# Altium footprint library ResistorsTHD.PcbLib: 21 footprints (part 2 of 2)
Each footprint in its own frame and in the unit in brackets; x right, y up, seen from the top. Pads: shape width x height; smd on the part's side, far side on the other; paste and mask are expansions set on the pad; w line width, h text height; cw(c..) or ccw(c..) is an arc to the next point about the centre after c.
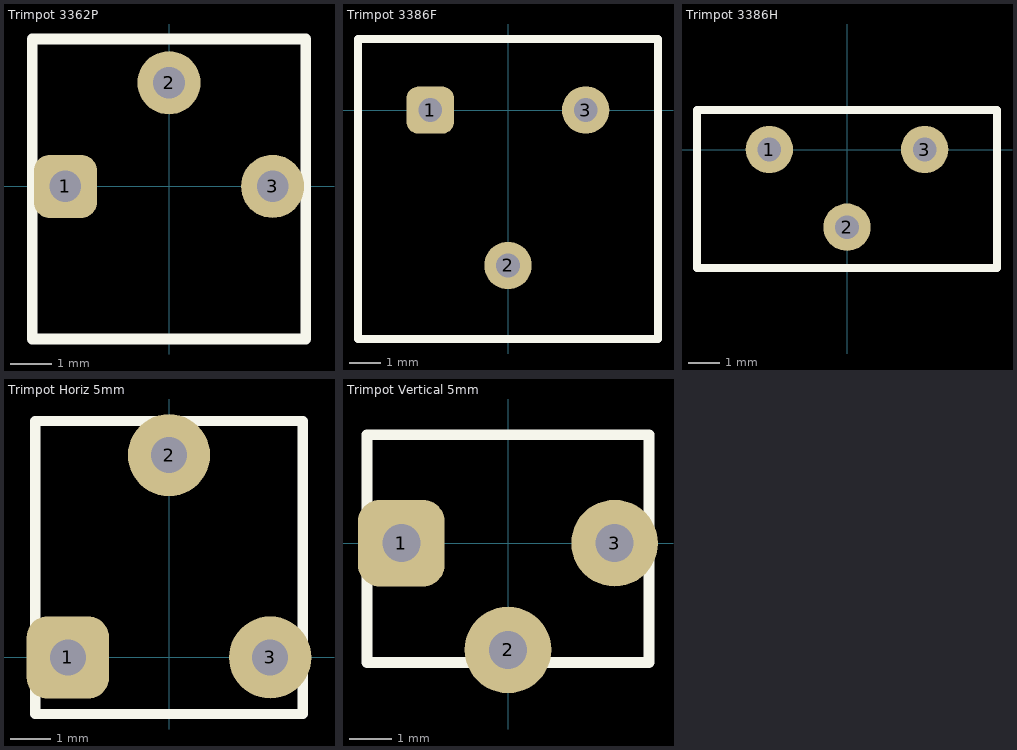
[diagram p1: the footprints below, top view; thin cyan lines are the x and y axes]

## Trimpot 3362P [mil]
pads (3):
  rrect50% 60x60 hole 30: 1(-98.43,0)
  round 60 hole 30: 2(0,98.43) 3(98.43,0)
Top Overlay:
  lines w10: -130,-145 130,-145 130,140 -130,140 -130,-145
3D body "Trimpot 3362P.step": height 185.04, standoff -78.74, extent -129.91,-145.66 129.93,137.8

## Trimpot 3386F [mil]
pads (3):
  rrect50% 60x60 hole 30: 1(-98.43,0)
  round 60 hole 30: 2(0,-196.85) 3(98.43,0)
Top Overlay:
  lines w10: -190,-290 190,-290 190,90 -190,90 -190,-290
3D body "Trimpot 3386F.step": height 190.16, standoff -78.74, extent -188.19,-288.19 188.19,88.19

## Trimpot 3386H [mil]
pads (3):
  round 60 hole 30: 1(-98.43,0) 2(0,-98.43) 3(98.43,0)
Top Overlay:
  lines w10: -190,-150 190,-150 190,50 -190,50 -190,-150
3D body "Trimpot 3386H.step": height 375.59, standoff -78.74, extent -187.79,-145.27 187.8,45.28

## Trimpot Horiz 5mm [mil]
pads (3):
  rrect50% 80x80 hole 35: 1(-98.43,0)
  round 80 hole 35: 2(0,196.85) 3(98.43,0)
Top Overlay:
  lines w10: -130,-55 130,-55 130,230 -130,230 -130,-55
3D body "Trimpot Horiz 5mm.step": height 293.31, standoff -78.74, extent -127.95,-49.21 127.96,225.4

## Trimpot Vertical 5mm [mil]
pads (3):
  rrect50% 80x80 hole 35: 1(-98.43,0)
  round 80 hole 35: 2(0,-98.43) 3(98.43,0)
Top Overlay:
  lines w10: -130,-110 130,-110 130,100 -130,100 -130,-110
3D body "Trimpot Vertical 5mm.step": height 311.02, standoff -78.74, extent -127.95,-105.12 127.95,97.64